# Altium footprint library IC-SMD.PCBLIB: 298 footprints (part 15 of 19)
Each footprint in its own frame and in the unit in brackets; x right, y up, seen from the top. Pads: shape width x height; smd on the part's side, far side on the other; paste and mask are expansions set on the pad; w line width, h text height; cw(c..) or ccw(c..) is an arc to the next point about the centre after c.
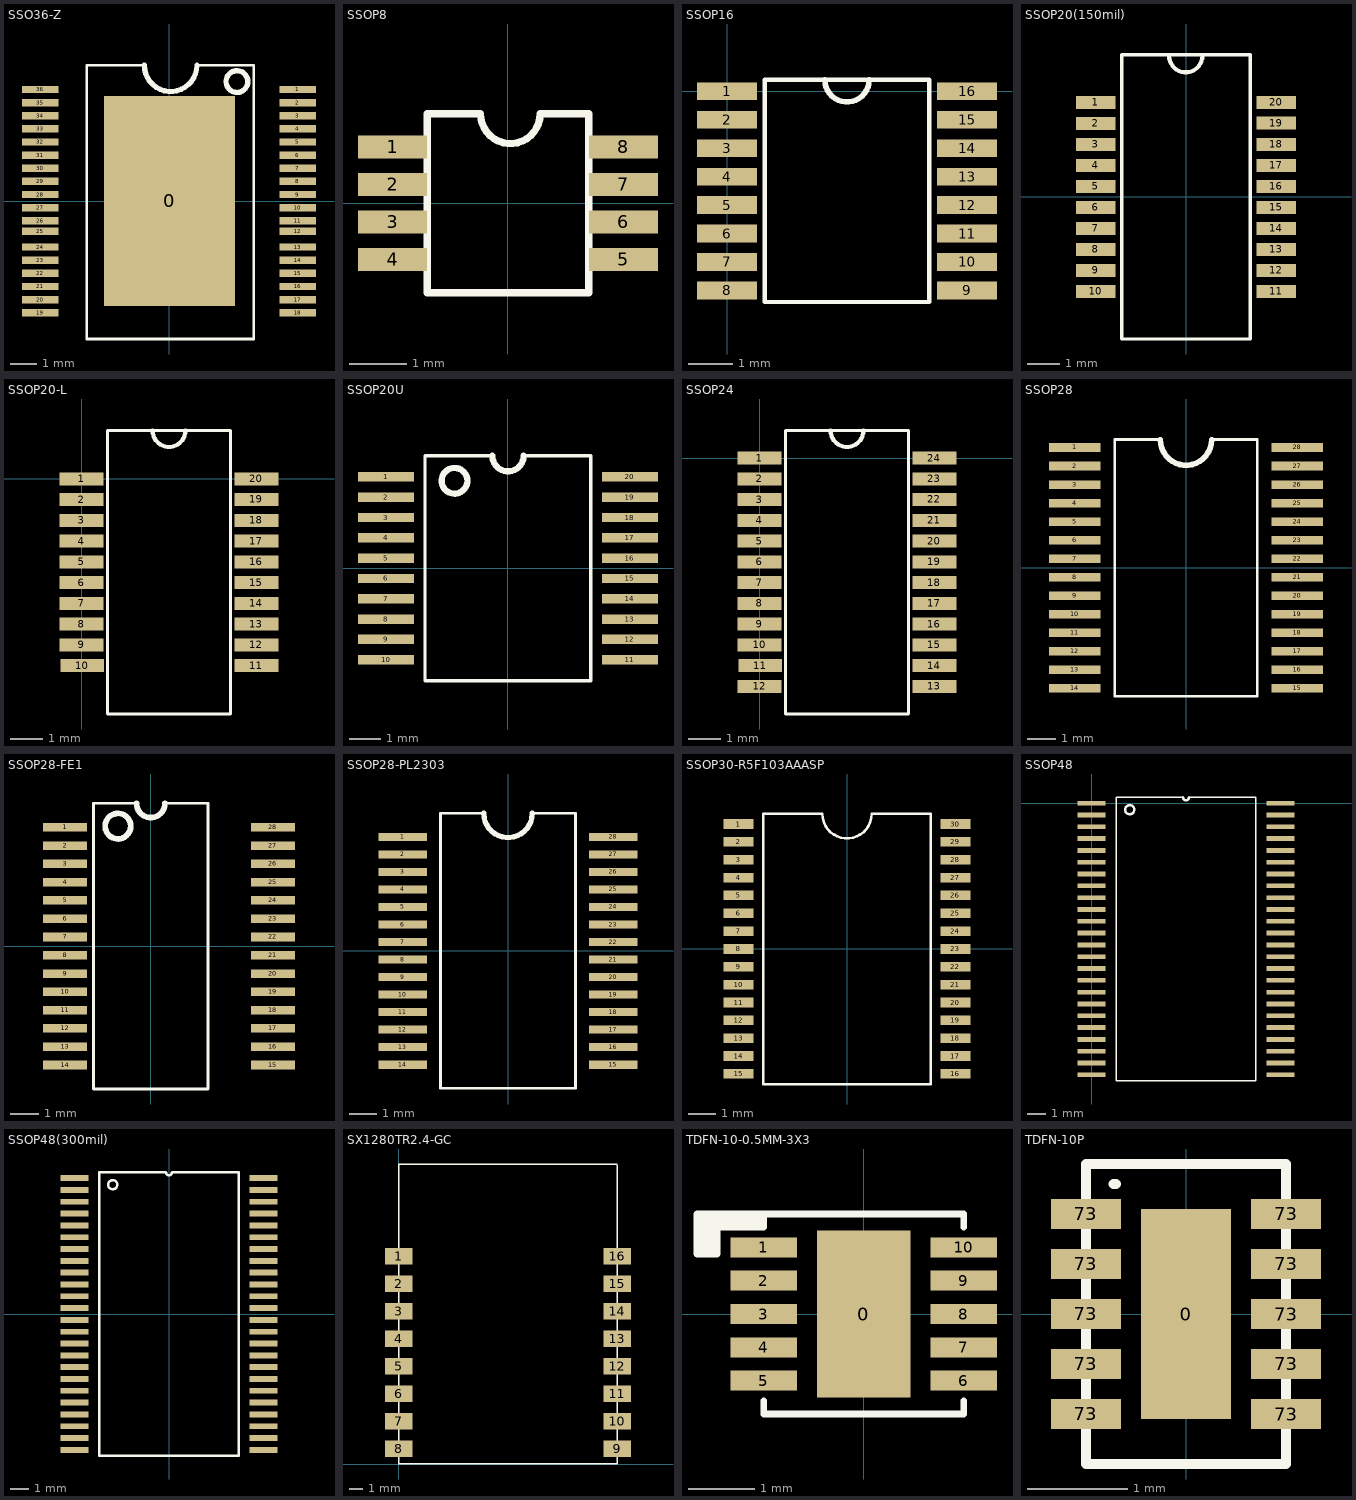
[diagram p14: the footprints below, top view; thin cyan lines are the x and y axes]

## SSO36-Z [mm]
pads (37):
  rect 5x8 smd: 0(0.022,0.005)
  rect 1.4x0.28 smd: 1(4.9,4.25) 2(4.9,3.75) 3(4.9,3.25) 4(4.9,2.75) 5(4.9,2.25) 6(4.9,1.75) 7(4.9,1.25) 8(4.9,0.75) 9(4.9,0.25) 10(4.9,-0.25) 11(4.9,-0.75) 12(4.9,-1.15) 13(4.9,-1.75) 14(4.9,-2.25) 15(4.9,-2.75) 16(4.9,-3.25) 17(4.9,-3.75) 18(4.9,-4.25) 19(-4.9,-4.25) 20(-4.9,-3.75) 21(-4.9,-3.25) 22(-4.9,-2.75) 23(-4.9,-2.25) 24(-4.9,-1.75) 25(-4.9,-1.15) 26(-4.9,-0.75) 27(-4.9,-0.25) 28(-4.9,0.25) 29(-4.9,0.75) 30(-4.9,1.25) 31(-4.9,1.75) 32(-4.9,2.25) 33(-4.9,2.75) 34(-4.9,3.25) 35(-4.9,3.75) 36(-4.9,4.25)
TopOverlay:
  circle w0.2: c2.587,4.55 r0.413
  lines w0.1: -0.937,5.171 -3.135,5.171 -3.135,-5.25 3.228,-5.25 3.228,5.171 1.063,5.171
  lines w0.2: -0.937,5.171 ccw(c0.063,5.171) 1.063,5.171

## SSOP8 [mm]
pads (8):
  rect 1.2x0.4 smd: 1(-2,0.975) 2(-2,0.325) 3(-2,-0.325) 4(-2,-0.975) 5(2,-0.975) 6(2,-0.325) 7(2,0.325) 8(2,0.975)
TopOverlay:
  lines w0.127: -1.4,-1.55 -1.4,1.55 -0.476,1.55 ccw(c0.041,1.55) 0.558,1.55 1.4,1.55 1.4,-1.55 -1.4,-1.55

## SSOP16 [mm]
pads (16):
  rect 1.35x0.4 smd: 1(0,0) 2(0,-0.64) 3(0,-1.28) 4(0,-1.92) 5(0,-2.56) 6(0,-3.2) 7(0,-3.84) 8(0,-4.48) 9(5.4,-4.48) 10(5.4,-3.84) 11(5.4,-3.2) 12(5.4,-2.56) 13(5.4,-1.92) 14(5.4,-1.28) 15(5.4,-0.64) 16(5.4,0)
TopOverlay:
  lines w0.1: 0.85,-4.74 0.85,0.26 4.55,0.26 4.55,-4.74 0.85,-4.74
  lines w0.127: 2.2,0.26 ccw(c2.7,0.26) 3.2,0.26

## SSOP20(150mil) [mm] "SSOP20(150mil)"
pads (20):
  rect 1.2x0.4 smd: 1(-2.75,2.88) 2(-2.75,2.24) 3(-2.75,1.6) 4(-2.75,0.96) 5(-2.75,0.32) 6(-2.75,-0.32) 7(-2.75,-0.96) 8(-2.75,-1.6) 9(-2.75,-2.24) 10(-2.75,-2.88) 11(2.75,-2.88) 12(2.75,-2.24) 13(2.75,-1.6) 14(2.75,-0.96) 15(2.75,-0.32) 16(2.75,0.32) 17(2.75,0.96) 18(2.75,1.6) 19(2.75,2.25) 20(2.75,2.88)
TopOverlay:
  lines w0.1: -1.956,-4.33 -1.956,4.33 1.956,4.33 1.956,-4.33 -1.956,-4.33
  lines w0.127: -0.517,4.305 ccw(c-0.008,4.305) 0.5,4.305

## SSOP20-L [mm]
pads (20):
  rect 1.35x0.4 smd: 1(0,0) 2(0,-0.64) 3(0,-1.28) 4(0,-1.92) 5(0,-2.56) 6(0,-3.2) 7(0,-3.84) 8(0,-4.48) 9(0,-5.12) 10(0.025,-5.76) 11(5.4,-5.76) 12(5.4,-5.12) 13(5.4,-4.48) 14(5.4,-3.84) 15(5.4,-3.2) 16(5.4,-2.56) 17(5.4,-1.92) 18(5.4,-1.28) 19(5.4,-0.63) 20(5.4,0)
TopOverlay:
  lines w0.1: 0.8,-7.255 4.6,-7.255 4.6,1.495 0.8,1.495 0.8,-7.255
  lines w0.127: 2.192,1.495 ccw(c2.7,1.495) 3.208,1.495

## SSOP20U [mm]
pads (20):
  rect 1.8x0.3 smd: 1(-3.9,2.925) 2(-3.9,2.275) 3(-3.9,1.625) 4(-3.9,0.975) 5(-3.9,0.325) 6(-3.9,-0.325) 7(-3.9,-0.975) 8(-3.9,-1.625) 9(-3.9,-2.275) 10(-3.9,-2.925) 11(3.9,-2.925) 12(3.9,-2.275) 13(3.9,-1.625) 14(3.9,-0.975) 15(3.9,-0.325) 16(3.9,0.325) 17(3.9,0.975) 18(3.9,1.625) 19(3.9,2.275) 20(3.9,2.925)
TopOverlay:
  circle w0.2: c-1.712,2.8 r0.412
  lines w0.1: -0.5,3.6 -2.65,3.6 -2.65,-3.6 2.65,-3.6 2.65,3.6 0.5,3.6
  lines w0.2: -0.5,3.6 ccw(c0,3.6) 0.5,3.6

## SSOP24 [mm]
pads (24):
  rect 1.35x0.4 smd: 1(0,0) 2(0,-0.64) 3(0,-1.28) 4(0,-1.92) 5(0,-2.56) 6(0,-3.2) 7(0,-3.84) 8(0,-4.48) 9(0,-5.12) 10(0,-5.76) 11(0.025,-6.4) 12(0,-7.04) 13(5.4,-7.04) 14(5.4,-6.4) 15(5.4,-5.76) 16(5.4,-5.12) 17(5.4,-4.48) 18(5.4,-3.84) 19(5.4,-3.2) 20(5.4,-2.56) 21(5.4,-1.92) 22(5.4,-1.27) 23(5.4,-0.64) 24(5.4,0)
TopOverlay:
  lines w0.1: 0.8,-7.895 0.8,0.855 4.6,0.855 4.6,-7.895 0.8,-7.895
  lines w0.127: 2.192,0.855 ccw(c2.7,0.855) 3.208,0.855

## SSOP28 [mm]
pads (28):
  rect 1.8x0.3 smd: 1(-3.9,4.225) 2(-3.9,3.575) 3(-3.9,2.925) 4(-3.9,2.275) 5(-3.9,1.625) 6(-3.9,0.975) 7(-3.9,0.325) 8(-3.9,-0.325) 9(-3.9,-0.975) 10(-3.9,-1.625) 11(-3.9,-2.275) 12(-3.9,-2.925) 13(-3.9,-3.575) 14(-3.9,-4.225) 15(3.9,-4.225) 16(3.9,-3.575) 17(3.9,-2.925) 18(3.9,-2.275) 19(3.9,-1.625) 20(3.9,-0.975) 21(3.9,-0.325) 22(3.9,0.325) 23(3.9,0.975) 24(3.9,1.625) 25(3.9,2.275) 26(3.9,2.925) 27(3.9,3.575) 28(3.9,4.225)
TopOverlay:
  lines w0.1: -0.9,4.5 -2.5,4.5 -2.5,-4.5 2.5,-4.5 2.5,4.5 0.9,4.5
  lines w0.2: -0.9,4.5 ccw(c0,4.5) 0.9,4.5

## SSOP28-FE1 [mm]
pads (28):
  rect 1.55x0.3 smd: 1(-3,4.16) 2(-3,3.52) 3(-3,2.88) 4(-3,2.24) 5(-3,1.6) 6(-3,0.96) 7(-3,0.32) 8(-3,-0.32) 9(-3,-0.96) 10(-3,-1.6) 11(-3,-2.24) 12(-3,-2.88) 13(-3,-3.52) 14(-3,-4.16) 15(4.28,-4.16) 16(4.28,-3.52) 17(4.28,-2.88) 18(4.28,-2.24) 19(4.28,-1.6) 20(4.28,-0.96) 21(4.28,-0.32) 22(4.28,0.32) 23(4.28,0.96) 24(4.28,1.6) 25(4.28,2.24) 26(4.28,2.88) 27(4.28,3.52) 28(4.28,4.16)
TopOverlay:
  circle w0.2: c-1.147,4.2 r0.447
  lines w0.1: -0.5,5 -2,5 -2,-5 2,-5 2,5 0.5,5
  lines w0.2: -0.5,5 ccw(c0,5) 0.5,5

## SSOP28-PL2303 [mm]
pads (28):
  rect 1.8x0.3 smd: 1(-3.9,4.225) 2(-3.9,3.575) 3(-3.9,2.925) 4(-3.9,2.275) 5(-3.9,1.625) 6(-3.9,0.975) 7(-3.9,0.325) 8(-3.9,-0.325) 9(-3.9,-0.975) 10(-3.9,-1.625) 11(-3.9,-2.275) 12(-3.9,-2.925) 13(-3.9,-3.575) 14(-3.9,-4.225) 15(3.9,-4.225) 16(3.9,-3.575) 17(3.9,-2.925) 18(3.9,-2.275) 19(3.9,-1.625) 20(3.9,-0.975) 21(3.9,-0.325) 22(3.9,0.325) 23(3.9,0.975) 24(3.9,1.625) 25(3.9,2.275) 26(3.9,2.925) 27(3.9,3.575) 28(3.9,4.225)
TopOverlay:
  lines w0.1: -0.9,5.1 -2.5,5.1 -2.5,-5.1 2.5,-5.1 2.5,5.1 0.9,5.1
  lines w0.2: -0.9,5.1 ccw(c0,5.1) 0.9,5.1

## SSOP30-R5F103AAASP [mm] "SSOP30-R5F103AAASP"
pads (30):
  rect 1.1x0.35 smd: 1(-3.95,4.55) 2(-3.95,3.9) 3(-3.95,3.25) 4(-3.95,2.6) 5(-3.95,1.95) 6(-3.95,1.3) 7(-3.95,0.65) 8(-3.95,0) 9(-3.95,-0.65) 10(-3.95,-1.3) 11(-3.95,-1.95) 12(-3.95,-2.6) 13(-3.95,-3.25) 14(-3.95,-3.9) 15(-3.95,-4.55) 16(3.95,-4.55) 17(3.95,-3.9) 18(3.95,-3.25) 19(3.95,-2.6) 20(3.95,-1.95) 21(3.95,-1.3) 22(3.95,-0.65) 23(3.95,0) 24(3.95,0.65) 25(3.95,1.3) 26(3.95,1.95) 27(3.95,2.6) 28(3.95,3.25) 29(3.95,3.9) 30(3.95,4.55)
TopOverlay:
  lines w0.1: 1.75,4.925 3.05,4.925 3.05,-4.925 -3.05,-4.925 -3.05,4.925 -2.5,4.925 -0.9,4.925 ccw(c0,4.925) 0.9,4.925 2.5,4.925

## SSOP48 [mil]
pads (48):
  rect 60x10 smd: 1(0,0) 2(0,-25) 3(0,-50) 4(0,-75) 5(0,-100) 6(0,-125) 7(0,-150) 8(0,-175) 9(0,-200) 10(0,-225) 11(0,-250) 12(0,-275) 13(0,-300) 14(0,-325) 15(0,-350) 16(0,-375) 17(0,-400) 18(0,-425) 19(0,-450) 20(0,-475) 21(0,-500) 22(0,-525) 23(0,-550) 24(0,-575) 25(400,-575) 26(400,-550) 27(400,-525) 28(400,-500) 29(400,-475) 30(400,-450) 31(400,-425) 32(400,-400) 33(400,-375) 34(400,-350) 35(400,-325) 36(400,-300) 37(400,-275) 38(400,-250) 39(400,-225) 40(400,-200) 41(400,-175) 42(400,-150) 43(400,-125) 44(400,-100) 45(400,-75) 46(400,-50) 47(400,-25) 48(400,0)
TopOverlay:
  circle w5: c80.83,-13.77 r9.69
  lines w3.94: 193.75,12.5 52.5,12.5 52.5,-587.5 347.5,-587.5 347.5,12.5 206.25,12.5
  lines w5: 193.75,12.5 ccw(c200,12.5) 206.25,12.5

## SSOP48(300mil) [mil] "SSOP48(300mil)"
pads (48):
  rect 60x12.5 smd: 1(-200,287.5) 2(-200,262.5) 3(-200,237.5) 4(-200,212.5) 5(-200,187.5) 6(-200,162.5) 7(-200,137.5) 8(-200,112.5) 9(-200,87.5) 10(-200,62.5) 11(-200,37.5) 12(-200,12.5) 13(-200,-12.5) 14(-200,-37.5) 15(-200,-62.5) 16(-200,-87.5) 17(-200,-112.5) 18(-200,-137.5) 19(-200,-162.5) 20(-200,-187.5) 21(-200,-212.5) 22(-200,-237.5) 23(-200,-262.5) 24(-200,-287.5) 25(200,-287.5) 26(200,-262.5) 27(200,-237.5) 28(200,-212.5) 29(200,-187.5) 30(200,-162.5) 31(200,-137.5) 32(200,-112.5) 33(200,-87.5) 34(200,-62.5) 35(200,-37.5) 36(200,-12.5) 37(200,12.5) 38(200,37.5) 39(200,62.5) 40(200,87.5) 41(200,112.5) 42(200,137.5) 43(200,162.5) 44(200,187.5) 45(200,212.5) 46(200,237.5) 47(200,262.5) 48(200,287.5)
TopOverlay:
  circle w5: c-119.17,273.73 r9.69
  lines w5: -147.5,-300 -147.5,300 -6.25,300 ccw(c0,300) 6.25,300 147.5,300 147.5,-300 -147.5,-300

## SX1280TR2.4-GC [mm] "SX1280TR2.4-GC"
pads (16):
  rect 2x1.2 smd: 1(0,15.105) 2(0,13.105) 3(0,11.105) 4(0,9.105) 5(0,7.105) 6(0,5.105) 7(0,3.105) 8(0,1.105) 9(15.85,1.105) 10(15.85,3.105) 11(15.85,5.105) 12(15.85,7.105) 13(15.85,9.105) 14(15.85,11.105) 15(15.85,13.105) 16(15.85,15.105)
TopOverlay:
  lines w0.102: 0,0 0,21.793 15.85,21.793 ; 14.326,0.025 0,0.025 15.85,0.025 15.85,21.717

## TDFN-10-0.5MM-3X3 [mm]
pads (11):
  rect 1.4x2.5 smd: 0(0,0)
  rect 1x0.3 smd: 1(-1.5,1) 2(-1.5,0.5) 3(-1.5,0) 4(-1.5,-0.5) 5(-1.5,-1) 6(1.5,-1) 7(1.5,-0.5) 8(1.5,0) 9(1.5,0.5) 10(1.5,1)
TopOverlay:
  rectangle: -2.5,1.3 -1.5,1.5
  rectangle: -2.5,0.9 -2.2,1.5
  lines w0.1: -1.5,-1.3 -1.5,-1.5 1.5,-1.5 1.5,-1.3 ; 1.5,1.3 1.5,1.5 -1.5,1.5 ; -1.5,1.5 -1.5,1.3 -2.2,1.3 -2.2,0.9 -2.5,0.9 -2.5,1.5 -1.5,1.5

## TDFN-10P [mm] "TDFN-10P"
pads (11):
  rect 0.9x2.1 smd: 0(0,0)
  rect 0.7x0.3 smd: 73(-1,-1) 73(-1,-0.5) 73(-1,0) 73(-1,0.5) 73(-1,1) 73(1,-1) 73(1,-0.5) 73(1,0) 73(1,0.5) 73(1,1)
TopOverlay:
  lines w0.1: -0.725,1.3 -0.7,1.3 ; -1,-1.5 1,-1.5 1,1.5 -1,1.5 -1,-1.5